# Altium footprint library PcbLib1.PcbLib: 3 footprints
Each footprint in its own frame and in the unit in brackets; x right, y up, seen from the top. Pads: shape width x height; smd on the part's side, far side on the other; paste and mask are expansions set on the pad; w line width, h text height; cw(c..) or ccw(c..) is an arc to the next point about the centre after c.
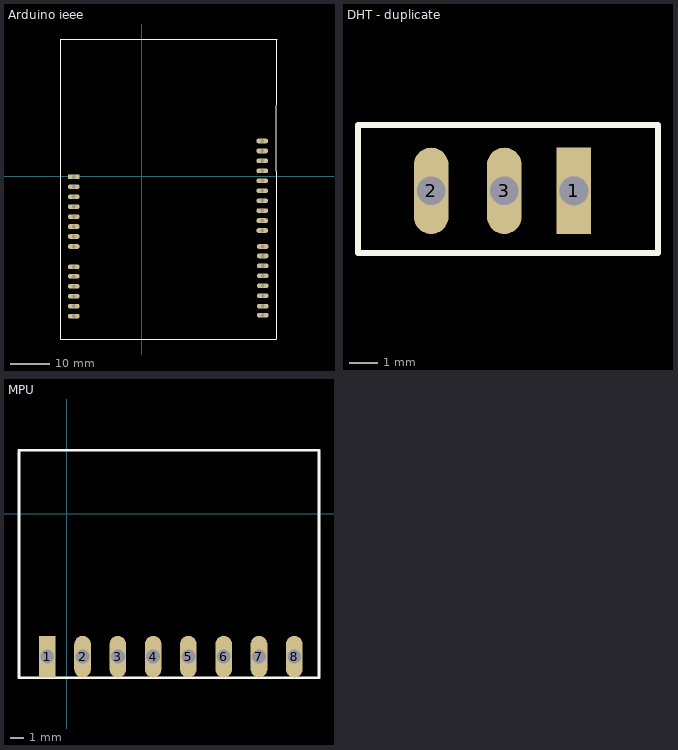
[diagram p0: the footprints below, top view; thin cyan lines are the x and y axes]

## Arduino ieee [mm]
pads (32):
  rect 3x1.2 hole 1: 1(-17.399,-0.127)
  oval 3x1.2 hole 1: 2(-17.399,-2.667) 3(-17.399,-5.207) 4(-17.399,-7.747) 5(-17.399,-10.287) 6(-17.399,-12.827) 7(-17.399,-15.367) 8(-17.399,-17.907) 9(-17.399,-23.114) 10(-17.399,-25.527) 11(-17.399,-28.067) 12(-17.399,-30.607) 13(-17.399,-33.147) 14(-17.399,-35.687) 15(30.861,-33.147) 16(30.861,-35.433) 17(30.861,-30.48) 18(30.861,-27.94) 19(30.861,-25.4) 20(30.861,-22.86) 21(30.861,-20.32) 22(30.861,-17.907) 23(30.734,-13.843) 24(30.734,-11.303) 25(30.734,-8.763) 26(30.734,-6.223) 27(30.734,-3.683) 28(30.734,-1.143) 29(30.734,1.397) 30(30.734,3.937) 31(30.734,6.477) 32(30.734,9.017)
Top Overlay:
  lines w0.2: 34.431,34.925 34.29,1.27 34.29,-41.529 -20.701,-41.529 -20.701,35.052 34.544,35.052
3D body "UNO_PCB.step": height 2.49, standoff -13.7, extent -20.066,-40.907 33.529,34.303

## DHT - duplicate [mm]
pads (3):
  rect 1.2x3 hole 1 unplated: 1(17.018,-25.146)
  oval 1.2x3 hole 1: 2(12.065,-25.146) 3(14.605,-25.146)
Top Overlay:
  lines w0.2: 9.525,-27.305 19.939,-27.305 19.939,-22.86 9.525,-22.86 9.525,-27.305
3D body "DHT22 Module v3.step": height 43.67, standoff 0.01, extent 7.461,-33.373 21.463,-21.237

## MPU [mm]
pads (8):
  rect 1.2x3 hole 1: 1(-1.397,-10.287)
  oval 1.2x3 hole 1: 2(1.143,-10.287) 3(3.683,-10.287) 4(6.223,-10.287) 5(8.763,-10.287) 6(11.303,-10.287) 7(13.843,-10.287) 8(16.383,-10.287)
Top Overlay:
  lines w0.2: -3.429,4.445 -3.429,-11.811 7.888,-11.811 13.153,-11.811 18.161,-11.811 18.161,4.572 -3.429,4.572
3D body "MPU 6050 IMU.STEP": height 10.36, standoff -0.81, extent -3.175,-11.557 17.932,4.318